# Altium schematic symbol library SnapEDAsch.SchLib: 1 symbol
Pins are listed as number, name and electrical type; pins without a type are passive.

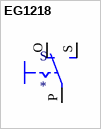
[diagram p0: symbol EG1218]

## EG1218
designator S
æ»‘å‹•é–‹é—œSPDTé€šå­”; MP: EG1218; MF: E-Switch; Package: Custom package E-Switch; Price: None; Availability: Unavailable; Value: *; SnapEDA_Link: https://www.snapeda.com/parts/EG1218/E-Switch/view-part/13895/?ref=snap
footprint EG1218
pins: O, P, S